# EAGLE library part 15PINZIF (library MOTO_LIB)
1mm Surface Mount, Vertical Mount FPC 52610-1333 manufacturer:MOLEX
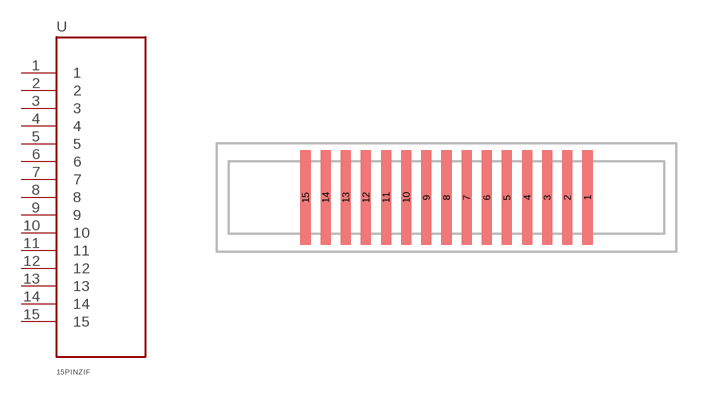
[diagram p0: symbol with the pads of MOLEX_52610-1333; footprint MOLEX_52610-1333]

Designator prefix -

## 15PINZIF (MPN: 52610-1533; SUPPLIER: MOLEX)  [MOLEX_52610-1333]
1  1
2  2
3  3
4  4
5  5
6  6
7  7
8  8
9  9
10  10
11  11
12  12
13  13
14  14
15  15

## Footprint MOLEX_52610-1333 (pad centres in mm)
1 mm) Surface Mount, Vertical Mount. manufacturer:MOLEX
smd 0.5 x 4.7: 1 7,0; 2 6,0; 3 5,0; 4 4,0; 5 3,0; 6 2,0; 7 1,0; 8 0,0; 9 -1,0; 10 -2,0; 11 -3,0; 12 -4,0; 13 -5,0; 14 -6,0; 15 -7,0